# EAGLE library part FDC6324 (library PCB_KioskMB_r3.3-05)
IC LOAD SWITCH INT 20VIN SSOT-6
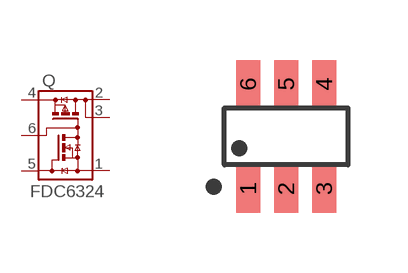
[diagram p11: symbol with the pads of SSOT-6; footprint SSOT-6]

Designator prefix Q

## FDC6324L  [SSOT-6]
1  Q1S
2  Q2D1
3  Q2D2
4  Q2S
5  Q1G  in
6  Q2G  in

## Footprint SSOT-6 (pad centres in mm)
SuperSOT-6
smd 0.6 x 1.2: 1 -0.95,-1.306; 2 0,-1.306; 3 0.95,-1.306; 4 0.95,1.306; 5 0.003,1.306; 6 -0.95,1.306